# EAGLE library part YUL262RTX (library SLock)
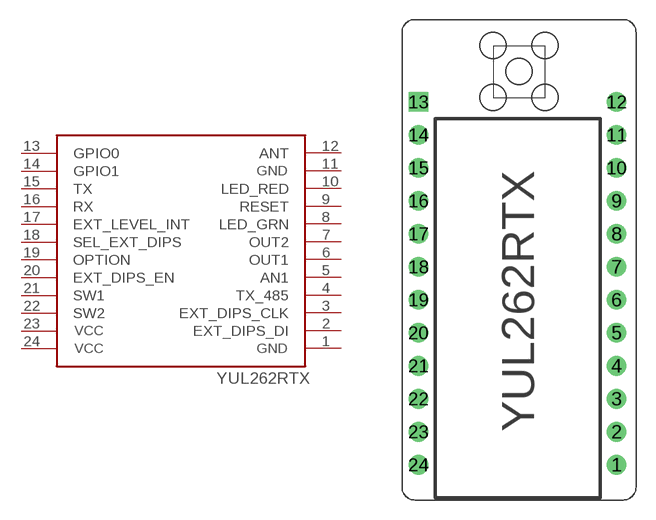
[diagram p0: symbol with the pads of YUL262RXT_HOLE; footprint YUL262RXT_HOLE]

Designator prefix -

## YUL262RTXHOLE  [YUL262RXT_HOLE]
1  GND_2  pwr
2  EXT_DIPS_DI
3  EXT_DIPS_CLK
4  TX_485
5  AN1
6  OUT1
7  OUT2
8  LED_GRN
9  RESET
10  LED_RED
11  GND_1  pwr
12  ANT
13  GPIO0
14  GPIO1
15  TX
16  RX
17  EXT_LEVEL_INT
18  SEL_EXT_DIPS
19  OPTION
20  EXT_DIPS_EN
21  SW1
22  SW2
23  VCC_1  pwr
24  VCC_2  pwr

## Footprint YUL262RXT_HOLE (pad centres in mm)
drill 1: 1 7.62,-15.24; 2 7.62,-12.7; 3 7.62,-10.16; 4 7.62,-7.62; 5 7.62,-5.08; 6 7.62,-2.54; 7 7.62,0; 8 7.62,2.54; 9 7.62,5.08; 10 7.62,7.62; 11 7.62,10.16; 12 7.62,12.7; 14 -7.62,10.16; 15 -7.62,7.62; 16 -7.62,5.08; 17 -7.62,2.54; 18 -7.62,0; 19 -7.62,-2.54; 20 -7.62,-5.08; 21 -7.62,-7.62; 22 -7.62,-10.16; 23 -7.62,-12.7; 24 -7.62,-15.24
drill 1 square: 13 -7.62,12.7